# Altium footprint library SnapEDApcb.PcbLib: 1 footprints
Each footprint in its own frame and in the unit in brackets; x right, y up, seen from the top. Pads: shape width x height; smd on the part's side, far side on the other; paste and mask are expansions set on the pad; w line width, h text height; cw(c..) or ccw(c..) is an arc to the next point about the centre after c.
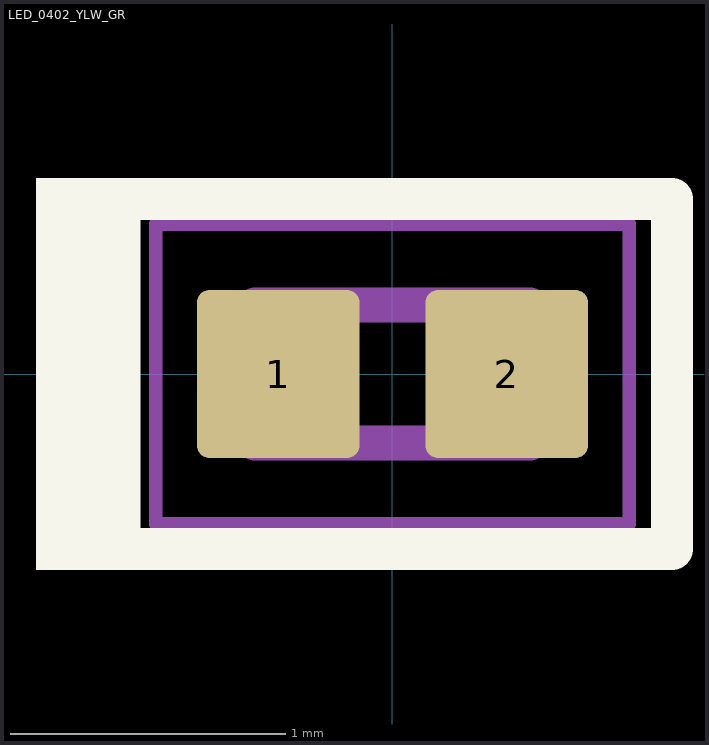
[diagram p0: the footprint, top view; thin cyan lines are the x and y axes]

## LED_0402_YLW_GR [mm]
pads (2):
  rrect15% 0.59x0.61 smd: 1(-0.415,0) 2(0.415,0)
Top Overlay:
  rectangle: -1.295,-0.711 -0.914,0.711
  lines w0.152: -1.016,-0.635 1.016,-0.635 1.016,0.635 -1.016,0.635 -1.016,-0.635
Mechanical 13:
  lines w0.127: -0.5,-0.25 -0.5,0.25 0.5,0.25 0.5,-0.25 -0.5,-0.25
Mechanical 15:
  lines w0.05: -0.86,-0.545 -0.86,0.545 0.86,0.545 0.86,-0.545 -0.86,-0.545
3D body "VLMx15xx_0402.stp": height 0.32, standoff -0.03, extent -0.5,-0.25 0.5,0.25